# EAGLE library part USB-OTG-CABLE-MICRO-A (library m_connector)
USB OTG cable with type A plug and discrete (not shorted) ID line, shielded. Created 2016-01-26
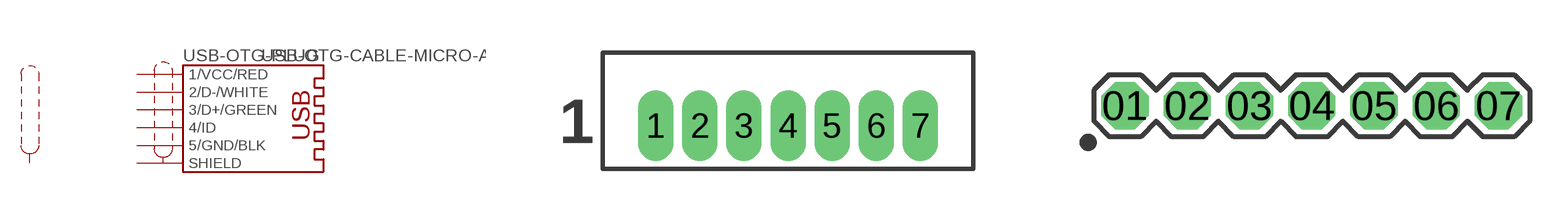
[diagram p11: symbol with the pads of MOLEX_53047-0710; footprints MOLEX_53047-0710, 1X07]

Designator prefix USB-OTG; gates -PLUG=USB-MICRO-A-PLUG -SHIELD=SHIELD_05

## USB-OTG-CABLE-MICRO-APICOBLADE (MANUF: generic; PARTNUM: segor:USB-microB5ST+Kappe;)  [MOLEX_53047-0710]
1  -PLUG:SHIELD  pas
2  -PLUG:1/VCC/RED  pas
3  -PLUG:2/D-/WHITE  pas
4  -PLUG:3/D+/GREEN  pas
5  -PLUG:4/ID  pas
6  -PLUG:5/GND/BLK  pas
7  -SHIELD:SHIELD  pas

## USB-OTG-CABLE-MICRO-ASTD_0.1  [1X07]
01  -PLUG:SHIELD  pas
02  -PLUG:1/VCC/RED  pas
03  -PLUG:2/D-/WHITE  pas
04  -PLUG:3/D+/GREEN  pas
05  -PLUG:4/ID  pas
06  -PLUG:5/GND/BLK  pas
07  -SHIELD:SHIELD  pas

## USB-OTG-CABLE-MICRO-A  [1X07_SMT]
P$1  -PLUG:SHIELD  pas
P$2  -PLUG:1/VCC/RED  pas
P$3  -PLUG:2/D-/WHITE  pas
P$4  -PLUG:3/D+/GREEN  pas
P$5  -PLUG:4/ID  pas
P$6  -PLUG:5/GND/BLK  pas
P$7  -SHIELD:SHIELD  pas

## Footprint MOLEX_53047-0710 (pad centres in mm)
Molex 53047 Series, 1.25mm Pitch, 7 Conductor Molex 1.25mm pitch through hole connector. Pre tinned phosphor bronze pins, mates with 51021 series.
drill 0.5 long: 1 -3.75,0; 2 -2.5,0; 3 -1.25,0; 4 0,0; 5 1.25,0; 6 2.5,0; 7 3.75,0

## Footprint 1X07 (pad centres in mm)
drill 1.016 pad 1.93 octagon: 01 0,0; 02 2.54,0; 03 5.08,0; 04 7.62,0; 05 10.16,0; 06 12.7,0; 07 15.24,0

## Footprint 1X07_SMT (pad centres in mm)
SMT Pads, 0.06" x 0.08"
smd 1.524 x 2.032: P$1 -7.62,0; P$2 -5.08,0; P$3 -2.54,0; P$4 0,0; P$5 2.54,0; P$6 5.08,0; P$7 7.62,0